# Altium schematic symbol library GSM.SCHLIB: 8 symbols
Pins are listed as number, name and electrical type; pins without a type are passive.

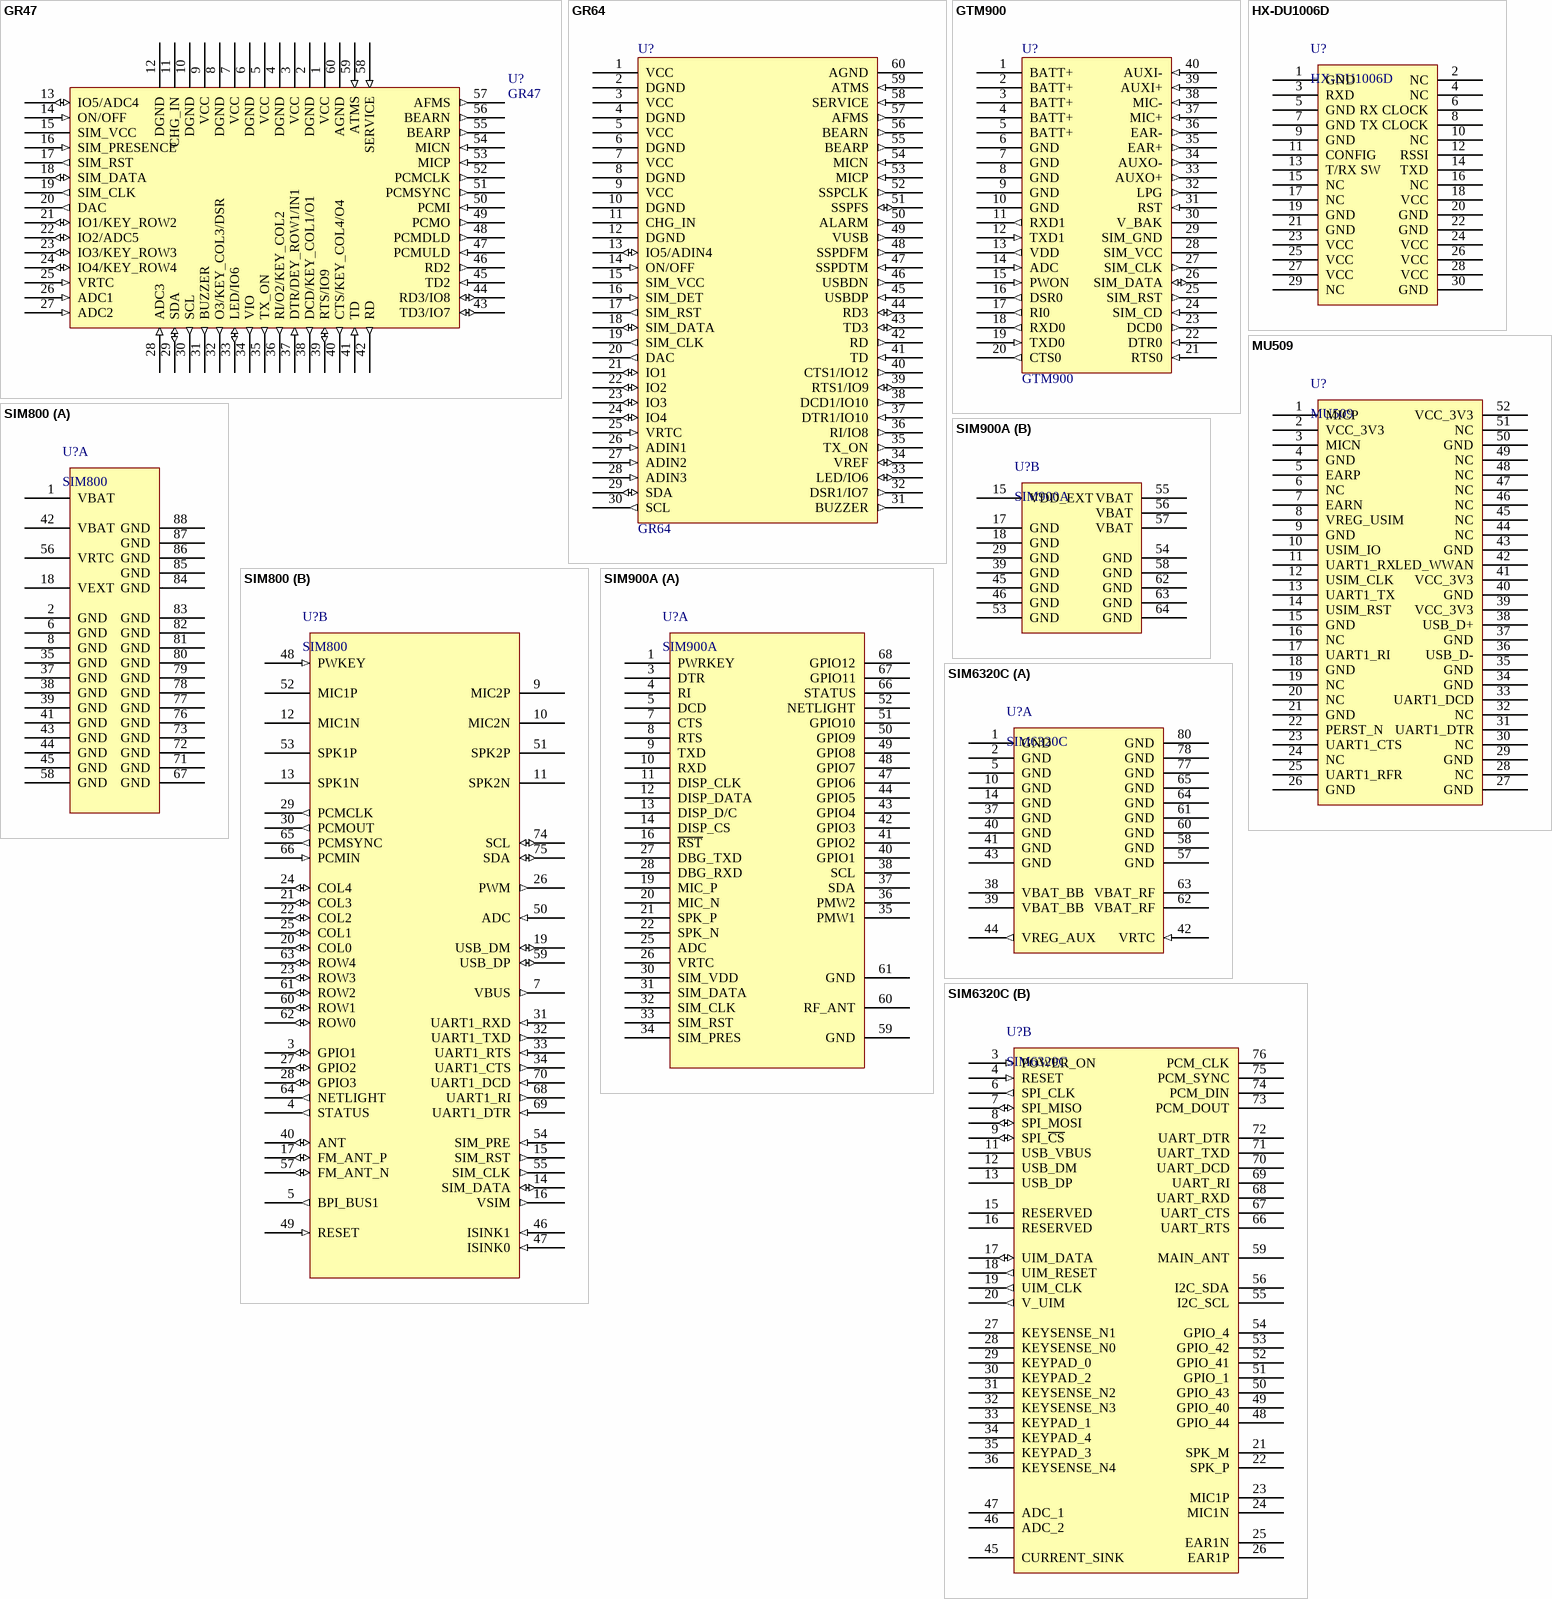
[diagram p0: symbols GR47 to SIM6320C]

## GR47
designator U?
footprint GR47 (B2B is drew in BB02-CB.WWW.GRADCONN.COM)
pins: 1 VCC (power), 2 DGND (power), 3 VCC (power), 4 DGND (power), 5 VCC (power), 6 DGND (power), 7 VCC (power), 8 DGND (power), 9 VCC (power), 10 DGND (power), 11 CHG_IN (power), 12 DGND (power), 13 IO5/ADC4 (io), 14 ON/OFF (in), 15 SIM_VCC (power), 16 SIM_PRESENCE (in), 17 SIM_RST (out), 18 SIM_DATA (io), 19 SIM_CLK (out), 20 DAC (out), 21 IO1/KEY_ROW2 (io), 22 IO2/ADC5 (io), 23 IO3/KEY_ROW3 (io), 24 IO4/KEY_ROW4 (io), 25 VRTC (in), 26 ADC1 (in), 27 ADC2 (in), 28 ADC3 (in), 29 SDA (io), 30 SCL (out), 31 BUZZER (out), 32 O3/KEY_COL3/DSR (out), 33 LED/IO6 (io), 34 VIO (out), 35 TX_ON (out), 36 RI/O2/KEY_COL2 (out), 37 DTR/DEY_ROW1/IN1 (in), 38 DCD/KEY_COL1/O1 (out), 39 RTS/IO9 (io), 40 CTS/KEY_COL4/O4 (out), 41 TD (in), 42 RD (out), 43 TD3/IO7 (io), 44 RD3/IO8 (io), 45 TD2 (in), 46 RD2 (out), 47 PCMULD (in), 48 PCMDLD (out), 49 PCMO (out), 50 PCMI (in), 51 PCMSYNC (out), 52 PCMCLK (out), 53 MICP (in), 54 MICN (in), 55 BEARP (out), 56 BEARN (out), 57 AFMS (out), 58 SERVICE (in), 59 ATMS (in), 60 AGND (power)

## GR64
designator U?
GSM/GPRS MODEM; Company: WAVECOM; Value: GR64
footprint GR47 (B2B is drew in BB02-CB.WWW.GRADCONN.COM)
pins: 1 VCC (power), 2 DGND (power), 3 VCC (power), 4 DGND (power), 5 VCC (power), 6 DGND (power), 7 VCC (power), 8 DGND (power), 9 VCC (power), 10 DGND (power), 11 CHG_IN (power), 12 DGND (power), 13 IO5/ADIN4 (io), 14 ON/OFF (in), 15 SIM_VCC (power), 16 SIM_DET (in), 17 SIM_RST (out), 18 SIM_DATA (io), 19 SIM_CLK (out), 20 DAC (out), 21 IO1 (io), 22 IO2 (io), 23 IO3 (io), 24 IO4 (io), 25 VRTC (in), 26 ADIN1 (in), 27 ADIN2 (in), 28 ADIN3 (in), 29 SDA (io), 30 SCL (out), 31 BUZZER (out), 32 DSR1/IO7 (out), 33 LED/IO6 (io), 34 VREF (io), 35 TX_ON (out), 36 RI/IO8 (out), 37 DTR1/IO10 (in), 38 DCD1/IO10 (out), 39 RTS1/IO9 (io), 40 CTS1/IO12 (out), 41 TD (in), 42 RD (out), 43 TD3 (io), 44 RD3 (io), 45 USBDP (in), 46 USBDN (out), 47 SSPDTM (in), 48 SSPDFM (out), 49 VUSB (out), 50 ALARM (out), 51 SSPFS (io), 52 SSPCLK (out), 53 MICP (in), 54 MICN (in), 55 BEARP (out), 56 BEARN (out), 57 AFMS (out), 58 SERVICE (in), 59 ATMS (in), 60 AGND (power)

## GTM900
designator U?, comment value GTM900  (hidden comment: GSM MODULE)
Company: HUAWEI
footprint FH12-40S-0.5SH (FPC/FFC)
pins: 1 BATT+ (power), 2 BATT+ (power), 3 BATT+ (power), 4 BATT+ (power), 5 BATT+ (power), 6 GND (power), 7 GND (power), 8 GND (power), 9 GND (power), 10 GND (power), 11 RXD1 (out), 12 TXD1 (in), 13 VDD (out), 14 ADC (in), 15 PWON (in), 16 DSR0 (out), 17 RI0 (out), 18 RXD0 (out), 19 TXD0 (in), 20 CTS0 (out), 21 RTS0 (in), 22 DTR0 (in), 23 DCD0 (out), 24 SIM_CD (in), 25 SIM_RST (out), 26 SIM_DATA (io), 27 SIM_CLK (out), 28 SIM_VCC (power), 29 SIM_GND (power), 30 V_BAK (power), 31 RST (in), 32 LPG (out), 33 AUXO+ (out), 34 AUXO- (out), 35 EAR+ (out), 36 EAR- (out), 37 MIC+ (in), 38 MIC- (in), 39 AUXI+ (in), 40 AUXI- (in)

## HX-DU1006D
designator U?
华信数传电台
footprint 5046-030
pins: 1 GND, 2 NC, 3 RXD, 4 NC, 5 GND, 6 RX CLOCK, 7 GND, 8 TX CLOCK, 9 GND, 10 NC, 11 CONFIG, 12 RSSI, 13 T/RX SW, 14 TXD, 15 NC, 16 NC, 17 NC, 18 VCC, 19 GND, 20 GND, 21 GND, 22 GND, 23 VCC, 24 VCC, 25 VCC, 26 VCC, 27 VCC, 28 VCC, 29 NC, 30 GND

## MU509
designator U?
HUAWEI 3G MOUDLE
footprint MINIPCI-e (with latch)
pins: 1 MICP, 2 VCC_3V3, 3 MICN, 4 GND, 5 EARP, 6 NC, 7 EARN, 8 VREG_USIM, 9 GND, 10 USIM_IO, 11 UART1_RX, 12 USIM_CLK, 13 UART1_TX, 14 USIM_RST, 15 GND, 16 NC, 17 UART1_RI, 18 GND, 19 NC, 20 NC, 21 GND, 22 PERST_N, 23 UART1_CTS, 24 NC, 25 UART1_RFR, 26 GND, 27 GND, 28 NC, 29 GND, 30 NC, 31 UART1_DTR, 32 NC, 33 UART1_DCD, 34 GND, 35 GND, 36 USB_D-, 37 GND, 38 USB_D+, 39 VCC_3V3, 40 GND, 41 VCC_3V3, 42 LED_WWAN, 43 GND, 44 NC, 45 NC, 46 NC, 47 NC, 48 NC, 49 NC, 50 GND, 51 NC, 52 VCC_3V3

## SIM800
designator U?
GSM/GPRS
footprint SIM800
part A pins: 1 VBAT, 2 GND, 6 GND, 8 GND, 18 VEXT, 35 GND, 37 GND, 38 GND, 39 GND, 41 GND, 42 VBAT, 43 GND, 44 GND, 45 GND, 56 VRTC, 58 GND, 67 GND, 71 GND, 72 GND, 73 GND, 76 GND, 77 GND, 78 GND, 79 GND, 80 GND, 81 GND, 82 GND, 83 GND, 84 GND, 85 GND, 86 GND, 87 GND, 88 GND
part B pins: 3 GPIO1 (io), 4 STATUS (out), 5 BPI_BUS1 (out), 7 VBUS (out), 9 MIC2P, 10 MIC2N, 11 SPK2N, 12 MIC1N, 13 SPK1N, 14 SIM_DATA (io), 15 SIM_RST (out), 16 VSIM (out), 17 FM_ANT_P (io), 19 USB_DM (io), 20 COL0 (io), 21 COL3 (io), 22 COL2 (io), 23 ROW3 (io), 24 COL4 (io), 25 COL1 (io), 26 PWM (out), 27 GPIO2 (io), 28 GPIO3 (io), 29 PCMCLK (out), 30 PCMOUT (out), 31 UART1_RXD (in), 32 UART1_TXD (out), 33 UART1_RTS (in), 34 UART1_CTS (out), 40 ANT (io), 46 ISINK1 (in), 47 ISINK0 (in), 48 PWKEY (in), 49 RESET (in), 50 ADC (in), 51 SPK2P, 52 MIC1P, 53 SPK1P, 54 SIM_PRE (in), 55 SIM_CLK (out), 57 FM_ANT_N (io), 59 USB_DP (io), 60 ROW1 (io), 61 ROW2 (io), 62 ROW0 (io), 63 ROW4 (io), 64 NETLIGHT (out), 65 PCMSYNC (out), 66 PCMIN (in), 68 UART1_RI (out), 69 UART1_DTR (in), 70 UART1_DCD (in), 74 SCL (io), 75 SDA (io)

## SIM900A
designator U?
GSM MODULE
footprint SIM900A (GSM MODULE)
part A pins: 1 PWRKEY, 3 DTR, 4 RI, 5 DCD, 7 CTS, 8 RTS, 9 TXD, 10 RXD, 11 DISP_CLK, 12 DISP_DATA, 13 DISP_D/C, 14 DISP_CS, 16 ~{RST}, 19 MIC_P, 20 MIC_N, 21 SPK_P, 22 SPK_N, 25 ADC, 26 VRTC, 27 DBG_TXD, 28 DBG_RXD, 30 SIM_VDD, 31 SIM_DATA, 32 SIM_CLK, 33 SIM_RST, 34 SIM_PRES, 35 PMW1, 36 PMW2, 37 SDA, 38 SCL, 40 GPIO1, 41 GPIO2, 42 GPIO3, 43 GPIO4, 44 GPIO5, 47 GPIO6, 48 GPIO7, 49 GPIO8, 50 GPIO9, 51 GPIO10, 52 NETLIGHT, 59 GND, 60 RF_ANT, 61 GND, 66 STATUS, 67 GPIO11, 68 GPIO12
part B pins: 15 VDD_EXT, 17 GND, 18 GND, 29 GND, 39 GND, 45 GND, 46 GND, 53 GND, 54 GND, 55 VBAT, 56 VBAT, 57 VBAT, 58 GND, 62 GND, 63 GND, 64 GND

## SIM6320C
designator U?
CDMA2000 MODULE
footprint SIM6320C (CDMA2000)
part A pins: 1 GND, 2 GND, 5 GND, 10 GND, 14 GND, 37 GND, 38 VBAT_BB, 39 VBAT_BB, 40 GND, 41 GND, 42 VRTC (in), 43 GND, 44 VREG_AUX (out), 57 GND, 58 GND, 60 GND, 61 GND, 62 VBAT_RF, 63 VBAT_RF, 64 GND, 65 GND, 77 GND, 78 GND, 80 GND
part B pins: 3 POWER_ON (in), 4 RESET (in), 6 SPI_CLK (out), 7 SPI_MISO (io), 8 SPI_MOSI (io), 9 SPI_~{CS} (io), 11 USB_VBUS (power), 12 USB_DM, 13 USB_DP, 15 RESERVED, 16 RESERVED, 17 UIM_DATA (io), 18 UIM_RESET (out), 19 UIM_CLK (out), 20 V_UIM (out), 21 SPK_M, 22 SPK_P, 23 MIC1P, 24 MIC1N, 25 EAR1N, 26 EAR1P, 27 KEYSENSE_N1, 28 KEYSENSE_N0, 29 KEYPAD_0, 30 KEYPAD_2, 31 KEYSENSE_N2, 32 KEYSENSE_N3, 33 KEYPAD_1, 34 KEYPAD_4, 35 KEYPAD_3, 36 KEYSENSE_N4, 45 CURRENT_SINK, 46 ADC_2, 47 ADC_1, 48 GPIO_44, 49 GPIO_40, 50 GPIO_43, 51 GPIO_1, 52 GPIO_41, 53 GPIO_42, 54 GPIO_4, 55 I2C_SCL, 56 I2C_SDA, 59 MAIN_ANT, 66 UART_RTS, 67 UART_CTS, 68 UART_RXD, 69 UART_RI, 70 UART_DCD, 71 UART_TXD, 72 UART_DTR, 73 PCM_DOUT, 74 PCM_DIN, 75 PCM_SYNC, 76 PCM_CLK